# Altium schematic symbol library SCH - DRIVER - MOTOR - TRINAMIC TMC2209.SCHLIB: 1 symbol
Pins are listed as number, name and electrical type; pins without a type are passive.

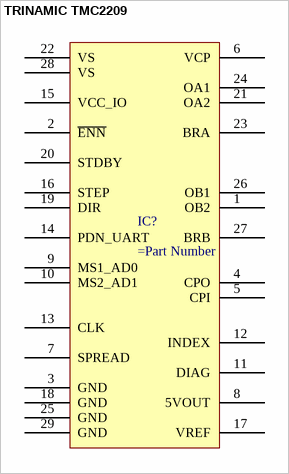
[diagram p0: symbol TRINAMIC TMC2209]

## TRINAMIC TMC2209
designator IC?
pins: 1 OB2, 2 ~{ENN}, 3 GND, 4 CPO, 5 CPI, 6 VCP, 7 SPREAD, 8 5VOUT, 9 MS1_AD0, 10 MS2_AD1, 11 DIAG, 12 INDEX, 13 CLK, 14 PDN_UART, 15 VCC_IO, 16 STEP, 17 VREF, 18 GND, 19 DIR, 20 STDBY, 21 OA2, 22 VS, 23 BRA, 24 OA1, 25 GND, 26 OB1, 27 BRB, 28 VS, 29 GND